# Altium schematic symbol library FerriteBeads.SchLib: 1 symbol
Pins are listed as number, name and electrical type; pins without a type are passive.

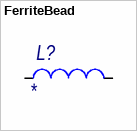
[diagram p0: symbol FerriteBead]

## FerriteBead
designator L?
Name: *
footprint FB0603 (Footprint not found)
pins: 1, 2